# EAGLE library part MICROSD-SOCKET (library KwanSystems)
microSD Socket Push-push type uSD socket. Digikey 101-00660-68-6-1-ND. tDoc lines correctly indicate media card edge positions when inserting (unlocked, locked, depressed).
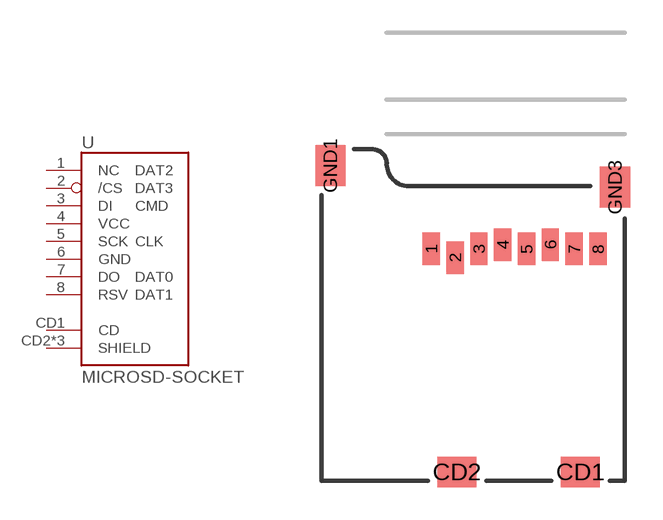
[diagram p15: symbol with the pads of MICROSD-SOCKET-PP; footprint MICROSD-SOCKET-PP]

Designator prefix -

## MICROSD-SOCKET  [MICROSD-SOCKET-PP]
1  NC
2  /CS
3  DI
4  VCC
5  SCK
6  GND
7  DO
8  RSV
CD1  CD
CD2  SHIELD
GND1  SHIELD
GND3  SHIELD

## Footprint MICROSD-SOCKET-PP (pad centres in mm)
smd 0.8 x 1.5: 1 -8.94,10.7; 2 -7.84,10.3; 3 -6.74,10.7; 4 -5.64,10.9; 5 -4.54,10.7; 6 -3.44,10.9; 7 -2.34,10.7; 8 -1.24,10.7
smd 1.8 x 1.4: CD1 -2.05,0.4; CD2 -7.75,0.4
smd 1.4 x 1.9: GND1 -13.6,14.55; GND3 -0.45,13.55